# Altium footprint library Devices.PcbLib: 190 footprints (part 4 of 12)
Each footprint in its own frame and in the unit in brackets; x right, y up, seen from the top. Pads: shape width x height; smd on the part's side, far side on the other; paste and mask are expansions set on the pad; w line width, h text height; cw(c..) or ccw(c..) is an arc to the next point about the centre after c.
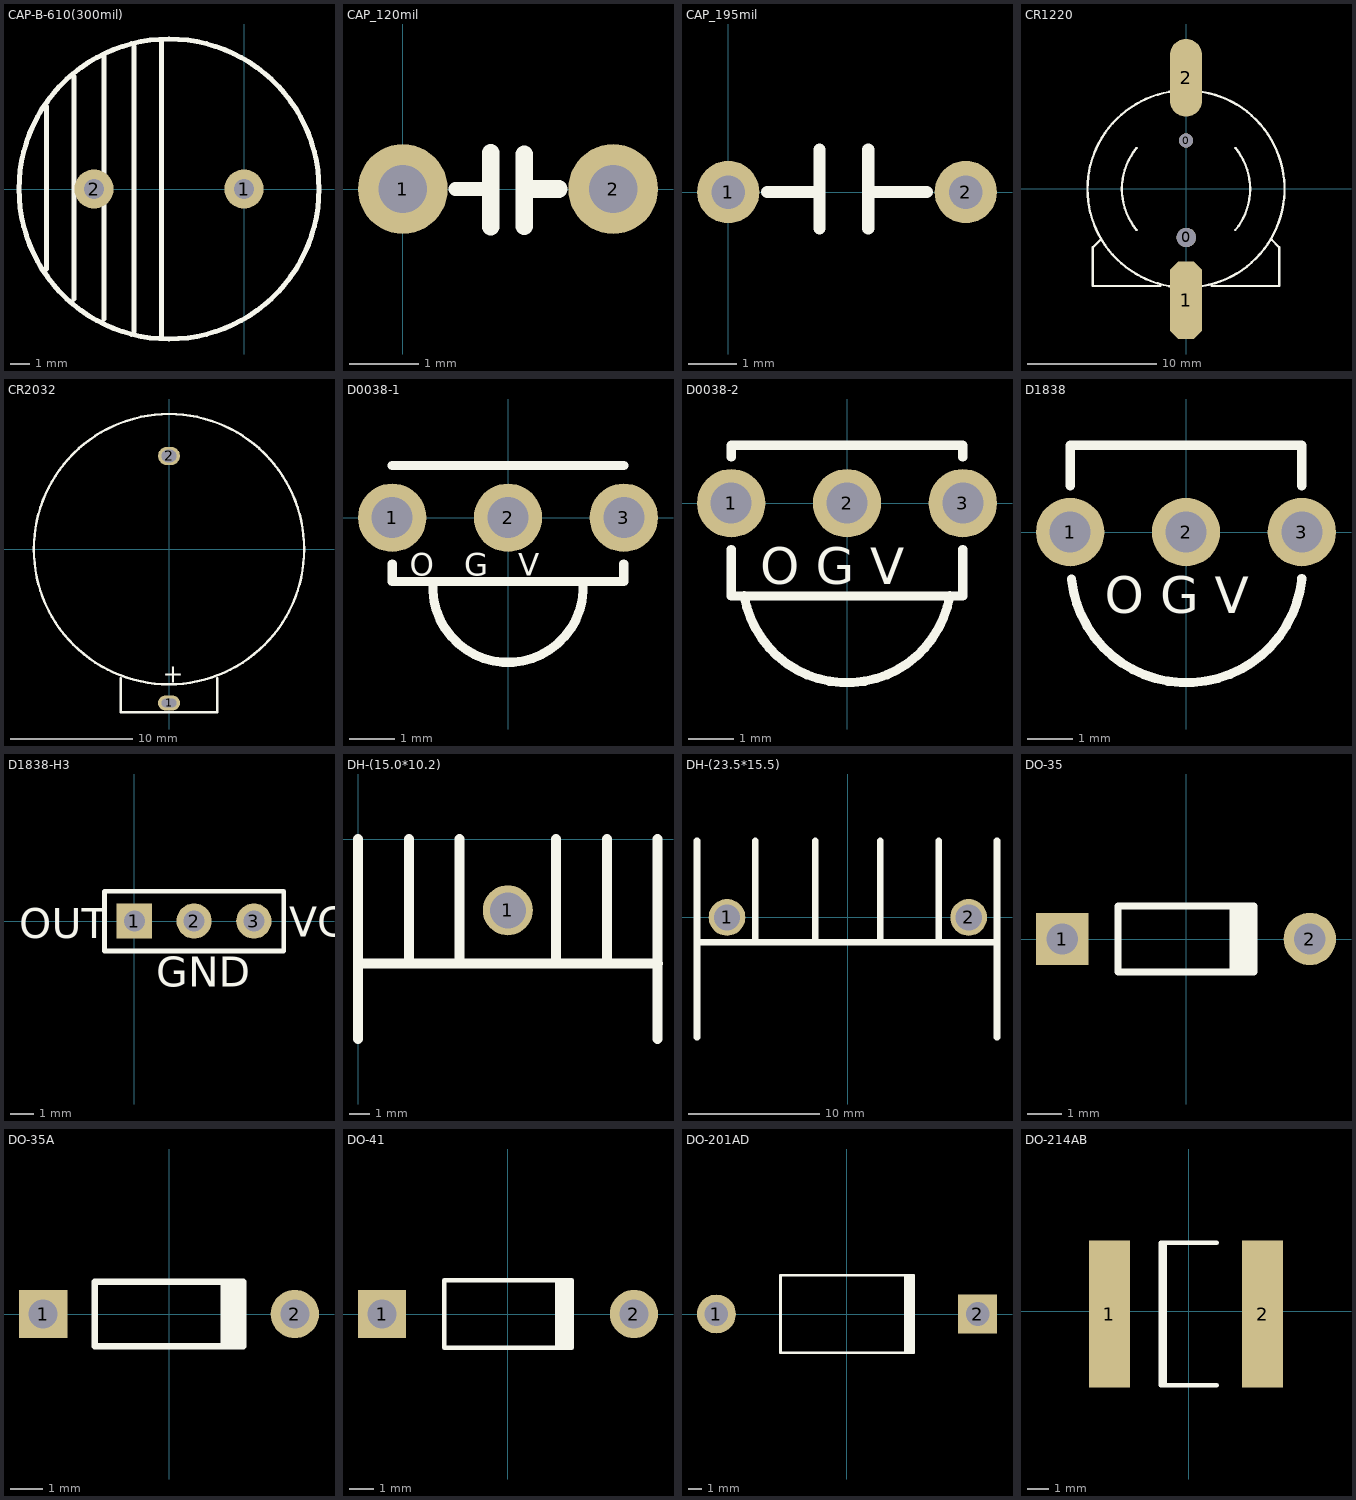
[diagram p3: the footprints below, top view; thin cyan lines are the x and y axes]

## CAP-B-610(300mil) [mm]
pads (2):
  round 2 hole 1: 1(0,0) 2(-7.62,0)
Top Overlay:
  circle w0.254: c-3.81,0 r7.62
  lines w0.254: -10.033,-4.064 -10.033,4.191 ; -8.636,-5.588 -8.636,5.715 ; -7.112,-6.604 -7.112,6.731 ; -5.588,-7.239 -5.588,7.239 ; -4.191,-7.493 -4.191,7.493

## CAP_120mil [mm]
pads (2):
  round 1.3 hole 0.7: 1(0,0) 2(3.048,0)
Top Overlay:
  lines w0.203: 0.762,0 1.143,0
  lines w0.254: 1.271,0.522 1.272,-0.546 ; 1.757,-0.54 1.757,0.504 ; 1.778,0 2.261,0

## CAP_195mil [mm]
pads (2):
  round 1.3 hole 0.7: 1(0,0) 2(4.953,0)
Top Overlay:
  lines w0.254: 0.813,0 1.905,0 ; 1.905,-0.762 1.905,0.889 ; 2.921,-0.762 2.921,0.889 ; 2.921,0 4.14,0

## CR1220 [mm]
pads (4):
  round 1.1 hole 1.1 unplated: 0(0,3.748)
  round 1.5 hole 1.5 unplated: 0(0.025,-3.752)
  oct 2.5x6 smd: 1(0,-8.602)
  oval 2.5x6 smd: 2(0,8.598)
Top Overlay:
  lines w0.178: -6.6,-3.902 -7.2,-4.502 -7.2,-7.502 -2,-7.502 ; -3.815,-3.171 cw(c0,-0.002) -3.812,3.171 ; -0.833,-7.576 cw(c0,-0.002) -7.62,-0.002 cw(c0,-0.002) -0.833,7.573 ; 0.833,-7.576 ccw(c0,-0.002) 0.833,7.573 ; 2,-7.502 7.2,-7.502 7.2,-4.502 6.625,-3.927 ; 3.81,-3.177 ccw(c0,-0.002) 3.812,3.171

## CR2032 [mm]
pads (2):
  oval 1.8x1.2 hole 0.7 slot 1.2 at 0 deg: 1(0,-12.573)
  oval 1.8x1.5 hole 1 slot 1.2 at 0 deg: 2(0,7.62)
Top Overlay:
  circle w0.2: c0,0 r11.049
  lines w0.2: -3.937,-10.541 -3.937,-13.335 3.937,-13.335 3.937,-10.541
  text "+" at -0.508,-10.922 h1.5

## D0038-1 [mm]
pads (3):
  round 1.5 hole 0.9: 1(-2.54,0) 2(0,0) 3(2.54,0)
Top Overlay:
  lines w0.2: -2.54,-1.016 -2.54,-1.397 2.54,-1.397 2.54,-1.016 ; -2.54,1.143 2.54,1.143 ; -1.646,-1.397 ccw(c0,-1.524) 1.646,-1.397
  text "O   G   V" at -2.159,-1.27 h0.5

## D0038-2 [mm]
pads (3):
  round 1.5 hole 0.9: 1(-2.54,0) 2(0,0) 3(2.54,0)
Top Overlay:
  lines w0.2: -2.54,-1.016 -2.54,-2.032 2.54,-2.032 2.54,-1.016 ; -2.54,1.016 -2.54,1.27 2.54,1.27 2.54,1.016 ; -2.255,-2.027 ccw(c0,-1.651) 2.255,-2.027
  text "O G V" at -1.905,-1.778 h0.8

## D1838 [mm]
pads (3):
  round 1.5 hole 0.9: 1(-2.54,0) 2(0,0) 3(2.54,0)
Top Overlay:
  lines w0.2: -2.54,1.016 -2.54,1.905 2.54,1.905 2.54,1.016 ; -2.513,-1.028 ccw(c0.013,-0.763) 2.54,-1.016
  text "O G V" at -1.778,-1.778 h0.8

## D1838-H3 [mm] "Connector; Header; 3 Position"
pads (3):
  rect 1.5x1.5 hole 0.9: 1(0,0)
  round 1.5 hole 0.9: 2(2.54,0) 3(5.08,0)
Top Overlay:
  lines w0.2: -1.27,-1.27 -1.27,1.27 6.35,1.27 6.35,-1.27 -1.27,-1.27
  text "OUT" at -4.902,-0.737 h1.27
  text "GND" at 0.94,-2.794 h1.27
  text "VCC" at 6.579,-0.66 h1.27

## DH-(15.0*10.2) [mm] "散热片"
height 20.2
pads (1):
  round 2.5 hole 1.8: 1(7.493,-3.556)
Top Overlay:
  lines w0.5: 0,-10 0,0.014 ; 0,-6.223 15,-6.223 ; 2.54,-6.223 2.54,0 ; 5.08,-6.223 5.08,0 ; 9.906,-6.223 9.906,0 ; 12.446,-6.223 12.446,0 ; 14.986,-10 14.986,0.014

## DH-(23.5*15.5) [mm] "散热片"
height 23
pads (2):
  round 2.8 hole 2: 1(-9.207,0) 2(9.207,0)
Top Overlay:
  lines w0.5: -11.493,-9.144 -11.493,5.856 ; -11.493,-1.905 11.367,-1.905 ; -7.048,-1.905 -7.048,5.842 ; -2.476,-1.905 -2.476,5.842 ; 2.476,-1.905 2.476,5.842 ; 6.921,-1.905 6.921,5.842 ; 11.367,-9.144 11.367,5.842

## DO-35 [mm]
pads (2):
  rect 1.5x1.5 hole 0.9: 1(-3.55,0)
  round 1.5 hole 0.9: 2(3.55,0)
Top Overlay:
  rectangle: 1.25,-0.95 2.05,0.95
  lines w0.2: 1.95,-0.95 -1.95,-0.95 -1.95,0.95 1.95,0.95

## DO-35A [mm]
pads (2):
  rect 1.5x1.5 hole 0.9: 1(-3.9,0)
  round 1.5 hole 0.9: 2(3.9,0)
Top Overlay:
  rectangle: 1.6,-1 2.4,1
  lines w0.2: 2.3,-1 -2.3,-1 -2.3,1 2.3,1

## DO-41 [mm]
pads (2):
  rect 2x2 hole 1.2: 1(-5.23,0)
  round 2 hole 1.2: 2(5.23,0)
Top Overlay:
  rectangle: 1.95,-1.4 2.75,1.4
  lines w0.2: 2.65,-1.4 -2.65,-1.4 -2.65,1.4 2.65,1.4

## DO-201AD [mm]
pads (2):
  round 2.8 hole 1.7: 1(-9.42,0)
  rect 2.8x2.8 hole 1.7: 2(9.42,0)
Top Overlay:
  rectangle: 4.1,-2.8 4.9,2.8
  lines w0.2: 4.8,-2.8 -4.8,-2.8 -4.8,2.8 4.8,2.8

## DO-214AB [mm]
pads (2):
  rect 1.9x6.8 smd: 1(-3.683,-0.127) 2(3.429,-0.127)
Top Overlay:
  lines w0.2: -1.11,-3.427 -1.11,3.173 ; 1.3,-3.427 -1.3,-3.427 -1.3,3.173 1.3,3.173